# Altium footprint library WCAP-ASLU.PcbLib: 6 footprints
Each footprint in its own frame and in the unit in brackets; x right, y up, seen from the top. Pads: shape width x height; smd on the part's side, far side on the other; paste and mask are expansions set on the pad; w line width, h text height; cw(c..) or ccw(c..) is an arc to the next point about the centre after c.
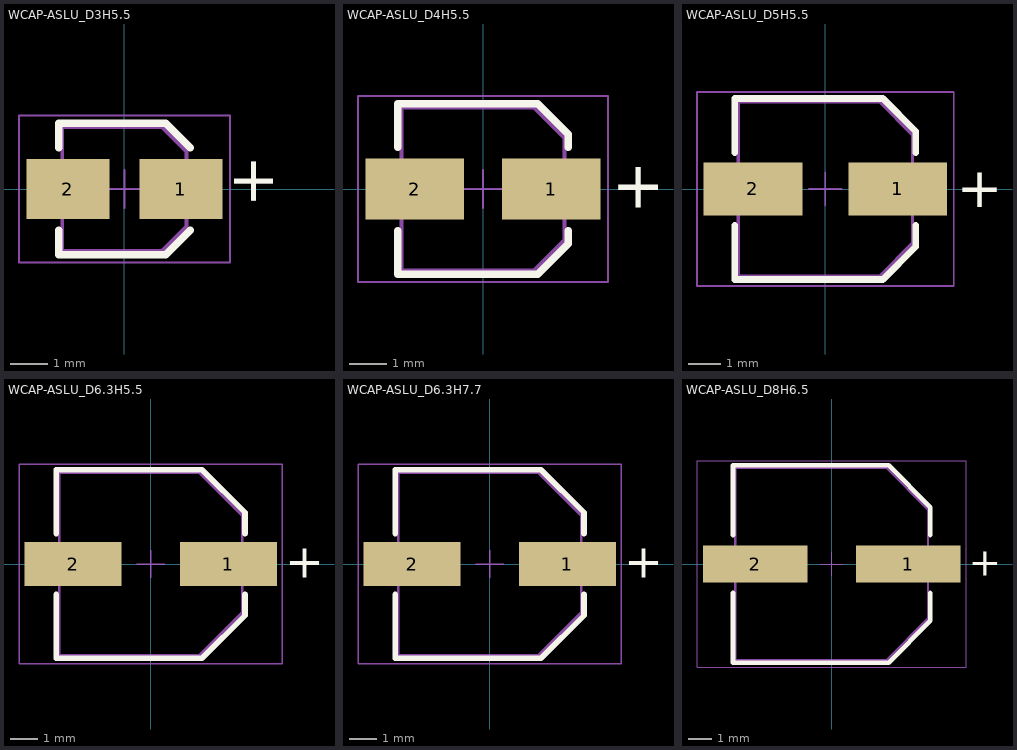
[diagram p0: the footprints below, top view; thin cyan lines are the x and y axes]

## WCAP-ASLU_D3H5.5 [mm] "Aluminum Electrolytic Capacitors, body diameter 3mm"
height 5.5
pads (2):
  rect 2.2x1.6 smd: 1(1.5,0) 2(-1.5,0)
Top Overlay:
  lines w0.2: -1.75,-1.1 -1.75,-1.75 1.1,-1.75 1.75,-1.1 ; -1.75,1.1 -1.75,1.75 1.1,1.75 1.75,1.1
  text "+" at 3.95,-0.5 h1.22
Top Designator:
  text ".Designator" at -3.999,-0.267 h0.8
Top Component Outline:
  lines w0.1: -1.65,-1.65 -1.65,1.65 1,1.65 1.65,1 1.65,-1 1,-1.65 -1.65,-1.65
Top 3D Body:
  lines w0.1: -1.65,-1.65 -1.65,1.65 1,1.65 1.65,1 1.65,-1 1,-1.65 -1.65,-1.65
Top Courtyard:
  lines w0.05: -0.5,0 0.5,0 ; 0,-0.5 0,0.5 ; -2.8,-1.95 -2.8,1.95 2.8,1.95 2.8,-1.95 -2.8,-1.95
3D body "3x5.5x0.8.stp": height 5.5, standoff 0, extent -1.9,-1.65 1.9,1.65

## WCAP-ASLU_D4H5.5 [mm] "Aluminum Electrolytic Capacitors, body diameter 4mm"
height 5.5
pads (2):
  rect 2.6x1.6 smd: 1(1.8,0) 2(-1.8,0)
Top Overlay:
  lines w0.2: -2.25,-1.1 -2.25,-2.25 1.45,-2.25 2.25,-1.45 2.25,-1.1 ; -2.25,1.1 -2.25,2.25 1.45,2.25 2.25,1.45 2.25,1.1
  text "+" at 3.4,-0.5 h1.22
Top Designator:
  text ".Designator" at -4.998,-0.333 h1
Top Component Outline:
  lines w0.1: -2.15,-2.15 1.35,-2.15 2.15,-1.35 2.15,1.35 1.35,2.15 -2.15,2.15 -2.15,-2.15
Top 3D Body:
  lines w0.1: -2.15,-2.15 1.35,-2.15 2.15,-1.35 2.15,1.35 1.35,2.15 -2.15,2.15 -2.15,-2.15
Top Courtyard:
  lines w0.05: -0.5,0 0.5,0 ; 0,-0.5 0,0.5 ; -3.3,-2.45 -3.3,2.45 3.3,2.45 3.3,-2.45 -3.3,-2.45
3D body "4x5.5x1.stp": height 5.5, standoff 0, extent -2.5,-2.15 2.5,2.15

## WCAP-ASLU_D5H5.5 [mm] "Aluminum Electrolytic Capacitors, body diameter 5mm"
height 5.5
pads (2):
  rect 3x1.6 smd: 1(2.2,0) 2(-2.2,0)
Top Overlay:
  lines w0.2: -2.75,-1.1 -2.75,-2.75 1.75,-2.75 2.75,-1.75 2.75,-1.1 ; -2.75,1.1 -2.75,2.75 1.75,2.75 2.75,1.75 2.75,1.1
  text "+" at 4,-0.55 h1.22
Top Designator:
  text ".Designator" at -5.998,-0.4 h1.2
Top Component Outline:
  lines w0.1: -2.65,-2.65 -2.65,2.65 1.65,2.65 2.65,1.65 2.65,-1.65 1.65,-2.65 -2.65,-2.65
Top 3D Body:
  lines w0.1: -2.65,-2.65 -2.65,2.65 1.65,2.65 2.65,1.65 2.65,-1.65 1.65,-2.65 -2.65,-2.65
Top Courtyard:
  lines w0.05: -0.5,0 0.5,0 ; 0,-0.5 0,0.5 ; -3.9,-2.95 3.9,-2.95 3.9,2.95 -3.9,2.95 -3.9,-2.95
3D body "5x5.5x1.4.stp": height 5.5, standoff 0, extent -3,-2.65 3,2.65

## WCAP-ASLU_D6.3H5.5 [mm] "Aluminum Electrolytic Capacitors, body diameter 6.3mm"
height 5.5
pads (2):
  rect 3.5x1.6 smd: 1(2.8,0) 2(-2.8,0)
Top Overlay:
  lines w0.2: -3.4,-1.1 -3.4,-3.4 1.85,-3.4 3.4,-1.85 3.4,-1.1 ; -3.4,1.1 -3.4,3.4 1.85,3.4 3.4,1.85 3.4,1.1
  text "+" at 4.85,-0.5 h1.22
Top Designator:
  text ".Designator" at -7.498,-0.5 h1.5
Top Component Outline:
  lines w0.1: -3.3,-3.3 -3.3,3.3 1.75,3.3 3.3,1.75 3.3,-1.75 1.75,-3.3 -3.3,-3.3
Top 3D Body:
  lines w0.1: -3.3,-3.3 -3.3,3.3 1.75,3.3 3.3,1.75 3.3,-1.75 1.75,-3.3 -3.3,-3.3
Top Courtyard:
  lines w0.05: -0.5,0 0.5,0 ; 0,-0.5 0,0.5 ; -4.75,-3.6 -4.75,3.6 4.75,3.6 4.75,-3.6 -4.75,-3.6
3D body "6.3x5.5x2.2.stp": height 5.5, standoff 0, extent -3.65,-3.3 3.65,3.3

## WCAP-ASLU_D6.3H7.7 [mm] "Aluminum Electrolytic Capacitors, body diameter 6.3mm"
height 7.7
pads (2):
  rect 3.5x1.6 smd: 1(2.8,0) 2(-2.8,0)
Top Overlay:
  lines w0.2: -3.4,-1.1 -3.4,-3.4 1.85,-3.4 3.4,-1.85 3.4,-1.1 ; -3.4,1.1 -3.4,3.4 1.85,3.4 3.4,1.85 3.4,1.1
  text "+" at 4.85,-0.5 h1.22
Top Designator:
  text ".Designator" at -7.498,-0.5 h1.5
Top Component Outline:
  lines w0.1: -3.3,-3.3 1.75,-3.3 3.3,-1.75 3.3,1.75 1.75,3.3 -3.3,3.3 -3.3,-3.3
Top 3D Body:
  lines w0.1: -3.3,-3.3 1.75,-3.3 3.3,-1.75 3.3,1.75 1.75,3.3 -3.3,3.3 -3.3,-3.3
Top Courtyard:
  lines w0.05: -0.5,0 0.5,0 ; 0,-0.5 0,0.5 ; -4.75,-3.6 4.75,-3.6 4.75,3.6 -4.75,3.6 -4.75,-3.6
3D body "6.3x7.7x2.2.stp": height 7.7, standoff 0, extent -3.65,-3.3 3.65,3.3

## WCAP-ASLU_D8H6.5 [mm] "Aluminum Electrolytic Capacitors, body diameter 8mm"
height 6.5
pads (2):
  rect 4.5x1.6 smd: 1(3.3,0) 2(-3.3,0)
Top Overlay:
  lines w0.2: -4.25,-1.25 -4.25,-4.25 2.45,-4.25 4.25,-2.45 4.25,-1.25 ; -4.25,1.25 -4.25,4.25 2.45,4.25 4.25,2.45 4.25,1.25
  text "+" at 5.9,-0.5 h1.22
Top Designator:
  text ".Designator" at -7.498,-0.5 h1.5
Top Component Outline:
  lines w0.1: -4.15,-4.15 2.35,-4.15 4.15,-2.35 4.15,2.35 2.35,4.15 -4.15,4.15 -4.15,-4.15
Top 3D Body:
  lines w0.1: -4.15,-4.15 2.35,-4.15 4.15,-2.35 4.15,2.35 2.35,4.15 -4.15,4.15 -4.15,-4.15
Top Courtyard:
  lines w0.05: -0.5,0 0.5,0 ; 0,-0.5 0,0.5 ; -5.8,-4.45 5.8,-4.45 5.8,4.45 -5.8,4.45 -5.8,-4.45
3D body "8x6.5x2.3.stp": height 6.49, standoff -0.01, extent -4.5,-4.15 4.5,4.15